# EAGLE library part TEXAS_INSTRUMENTS-BUCK_CONTROLLER-TPS82130SILR (library Module_Regulators)
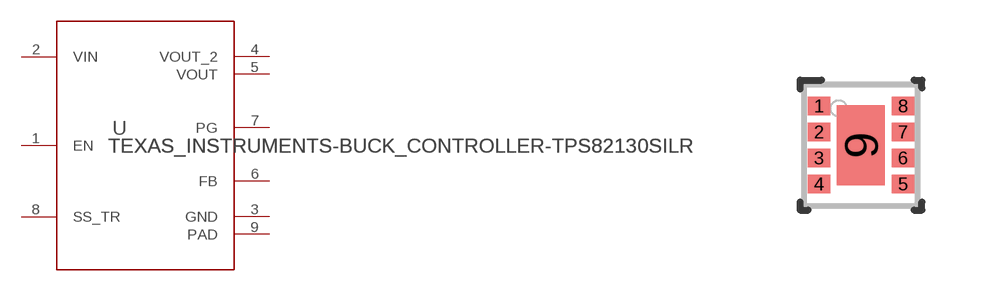
[diagram p46: symbol with the pads of TEXAS_INSTRUMENTS-BUCK_CONTROLLER-TPS82130SILR; footprint TEXAS_INSTRUMENTS-BUCK_CONTROLLER-TPS82130SILR]

Designator prefix U

## TEXAS_INSTRUMENTS-BUCK_CONTROLLER-TPS82130SILR (MANUFACTURER: Texas Instruments; PARTNUMBER: TPS82130SILR; REFDES: RefDes; TYPE: TYPE; VALUE: Value)  [TEXAS_INSTRUMENTS-BUCK_CONTROLLER-TPS82130SILR]
1  EN  in
2  VIN  pwr
3  GND  pwr
4  VOUT_2  pwr
5  VOUT  pwr
6  FB  in
7  PG  oc
8  SS_TR  in
9  PAD  pwr

## Footprint TEXAS_INSTRUMENTS-BUCK_CONTROLLER-TPS82130SILR (pad centres in mm)
smd 0.57 x 0.47: 1 -1.05,0.975; 2 -1.05,0.325; 3 -1.05,-0.325; 4 -1.05,-0.975; 5 1.05,-0.975; 6 1.05,-0.325; 7 1.05,0.325; 8 1.05,0.975
smd 1.2 x 2: 9 0,0